# Altium schematic symbol library TC2030.SchLib: 1 symbol
Pins are listed as number, name and electrical type; pins without a type are passive.

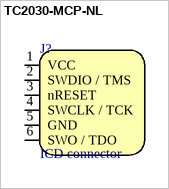
[diagram p0: symbol TC2030-MCP-NL]

## TC2030-MCP-NL
designator J?, comment ICD connector  (no BOM)
Conector par ICD
footprint TC2030-MCP-NL (Conector ICD en placa)
footprint TC2030-MCP (Conector ICD en placa)
pins: 1 VCC, 2 SWDIO / TMS, 3 nRESET, 4 SWCLK / TCK, 5 GND, 6 SWO / TDO